# Altium footprint library DIP-16_L20.0-W6.4-P2.54-LS7.6-BL.PcbLib: 1 footprints
Each footprint in its own frame and in the unit in brackets; x right, y up, seen from the top. Pads: shape width x height; smd on the part's side, far side on the other; paste and mask are expansions set on the pad; w line width, h text height; cw(c..) or ccw(c..) is an arc to the next point about the centre after c.
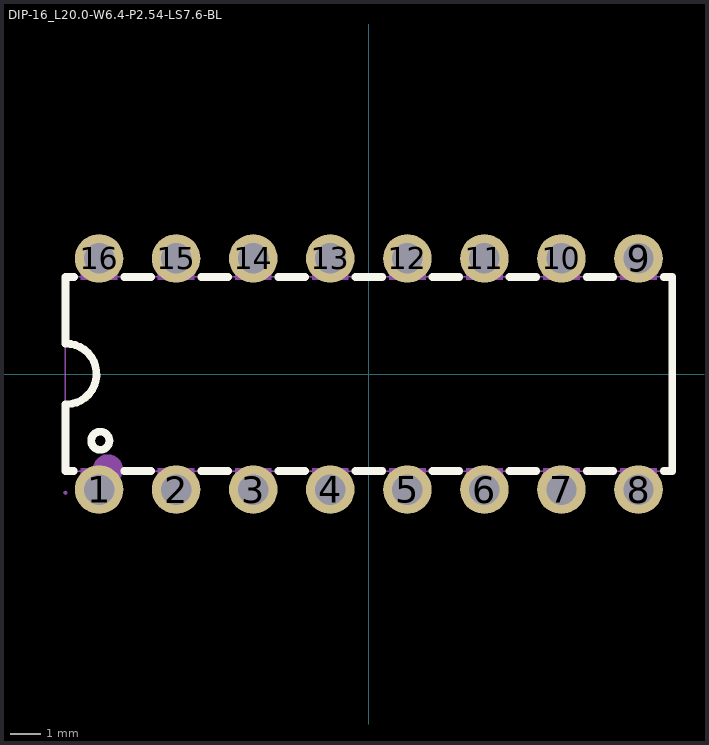
[diagram p0: the footprint, top view; thin cyan lines are the x and y axes]

## DIP-16_L20.0-W6.4-P2.54-LS7.6-BL [mm]
pads (16):
  round 1.6 / inner round 1.524 / far side round 1.524 hole 1: 1(-8.89,-3.81) 2(-6.35,-3.81) 3(-3.81,-3.81) 4(-1.27,-3.81) 5(1.27,-3.81) 6(3.81,-3.81) 7(6.35,-3.81) 8(8.89,-3.81) 9(8.89,3.81) 10(6.35,3.81) 11(3.81,3.81) 12(1.27,3.81) 13(-1.27,3.81) 14(-3.81,3.81) 15(-6.35,3.81) 16(-8.89,3.81)
Top Overlay:
  circle w0.254: c-8.85,-2.2 r0.3
  lines w0.254: -10,-1 -10,-3.2 -9.721,-3.2 ; -10,0.998 -10,3.198 -9.719,3.198 ; -10,1 cw(c-9.975,0) -9.95,-1 ; -8.061,3.198 -7.179,3.198 ; -8.059,-3.2 -7.181,-3.2 ; -5.521,3.198 -4.639,3.198 ; -5.519,-3.2 -4.641,-3.2 ; -2.981,3.198 -2.099,3.198 ; -2.979,-3.2 -2.101,-3.2 ; -0.441,3.198 0.441,3.198 ; -0.439,-3.2 0.439,-3.2 ; 2.099,3.198 2.981,3.198 ; 2.101,-3.2 2.979,-3.2 ; 4.639,3.198 5.521,3.198 ; 4.641,-3.2 5.519,-3.2 ; 7.179,3.198 8.061,3.198 ; 7.181,-3.2 8.059,-3.2 ; 9.719,3.198 10,3.198 ; 9.721,-3.2 10,-3.2 10,3.2
Mechanical 6:
  circle w0.5: c-8.6,-3.15 r0.25
Mechanical 15:
  region: -9.935,-3.91 -9.954,-3.864 -10,-3.845 -10.046,-3.864 -10.065,-3.91 -10.046,-3.956 -10,-3.975 -9.954,-3.956 -9.935,-3.91
  region: 6.583,3.91 6.583,3.71 6.117,3.71 6.117,3.91
  region: 6.95,3.1 6.95,3.91 5.75,3.91 5.75,3.1
  region: 9.49,3.1 9.49,3.91 8.29,3.91 8.29,3.1
  region: 9.123,3.91 9.123,3.71 8.658,3.71 8.658,3.91
  region: 4.41,3.1 4.41,3.91 3.21,3.91 3.21,3.1
  region: 4.043,3.91 4.043,3.71 3.578,3.71 3.578,3.91
  region: 1.87,3.1 1.87,3.91 0.67,3.91 0.67,3.1
  region: 1.503,3.91 1.503,3.71 1.037,3.71 1.037,3.91
  region: -0.67,3.1 -0.67,3.91 -1.87,3.91 -1.87,3.1
  region: -1.037,3.91 -1.037,3.71 -1.502,3.71 -1.502,3.91
  region: -3.21,3.1 -3.21,3.91 -4.41,3.91 -4.41,3.1
  region: -3.577,3.91 -3.577,3.71 -4.042,3.71 -4.042,3.91
  region: -5.75,3.1 -5.75,3.91 -6.95,3.91 -6.95,3.1
  region: -6.117,3.91 -6.117,3.71 -6.582,3.71 -6.582,3.91
  region: -8.29,3.1 -8.29,3.91 -9.49,3.91 -9.49,3.1
  region: -8.657,3.91 -8.657,3.71 -9.122,3.71 -9.122,3.91
  region: 8.657,-3.91 8.657,-3.71 9.123,-3.71 9.123,-3.91
  region: 8.29,-3.1 8.29,-3.91 9.49,-3.91 9.49,-3.1
  region: 6.117,-3.91 6.117,-3.71 6.582,-3.71 6.582,-3.91
  region: 5.75,-3.1 5.75,-3.91 6.95,-3.91 6.95,-3.1
  region: 3.577,-3.91 3.577,-3.71 4.042,-3.71 4.042,-3.91
  region: 3.21,-3.1 3.21,-3.91 4.41,-3.91 4.41,-3.1
  region: 1.037,-3.91 1.037,-3.71 1.503,-3.71 1.503,-3.91
  region: 0.67,-3.1 0.67,-3.91 1.87,-3.91 1.87,-3.1
  region: -1.502,-3.91 -1.502,-3.71 -1.037,-3.71 -1.037,-3.91
  region: -1.87,-3.1 -1.87,-3.91 -0.67,-3.91 -0.67,-3.1
  region: -4.043,-3.91 -4.043,-3.71 -3.578,-3.71 -3.578,-3.91
  region: -4.41,-3.1 -4.41,-3.91 -3.21,-3.91 -3.21,-3.1
  region: -9.123,-3.91 -9.123,-3.71 -8.658,-3.71 -8.658,-3.91
  region: -9.49,-3.1 -9.49,-3.91 -8.29,-3.91 -8.29,-3.1
  region: -6.95,-3.1 -6.95,-3.91 -5.75,-3.91 -5.75,-3.1
  region: -6.582,-3.91 -6.582,-3.71 -6.117,-3.71 -6.117,-3.91
  lines w0.051: -10,-3.2 10,-3.2 10,3.2 -10,3.2 -10,-3.2